# EAGLE library part SN74LVC2G14 (library 000001)
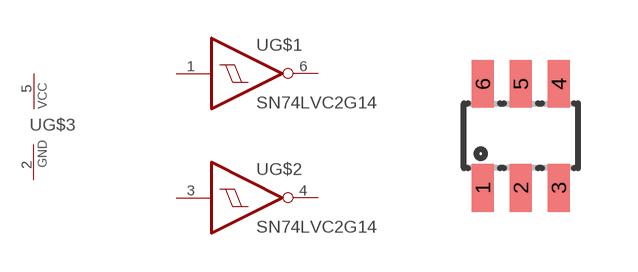
[diagram p115: symbol with the pads of SOT23-6L; footprint SOT23-6L]

Designator prefix -; gates G$1=7414 G$2=7414 G$3=PWRN

## SN74LVC2G14  [SOT23-6L]
1  G$1:I  in
2  G$3:GND  pwr
3  G$2:I  in
4  G$2:O  out
5  G$3:VCC  pwr
6  G$1:O  out

## Footprint SOT23-6L (pad centres in mm)
Small Outline Transistor
smd 0.55 x 1.2: 1 -0.95,-1.3; 2 0,-1.3; 3 0.95,-1.3; 4 0.95,1.3; 5 0,1.3; 6 -0.95,1.3